# Altium schematic symbol library Terminal Block 11.SchLib: 1 symbol
Pins are listed as number, name and electrical type; pins without a type are passive.

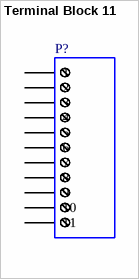
[diagram p0: symbol Terminal Block 11]

## Terminal Block 11
designator P?
Screw terminal block, 11-Way
pins: 1, 2, 3, 4, 5, 6, 7, 8, 9, 10, 11